# Altium integrated library TI Audio CODEC.IntLib: 199 symbols (part 6 of 17)
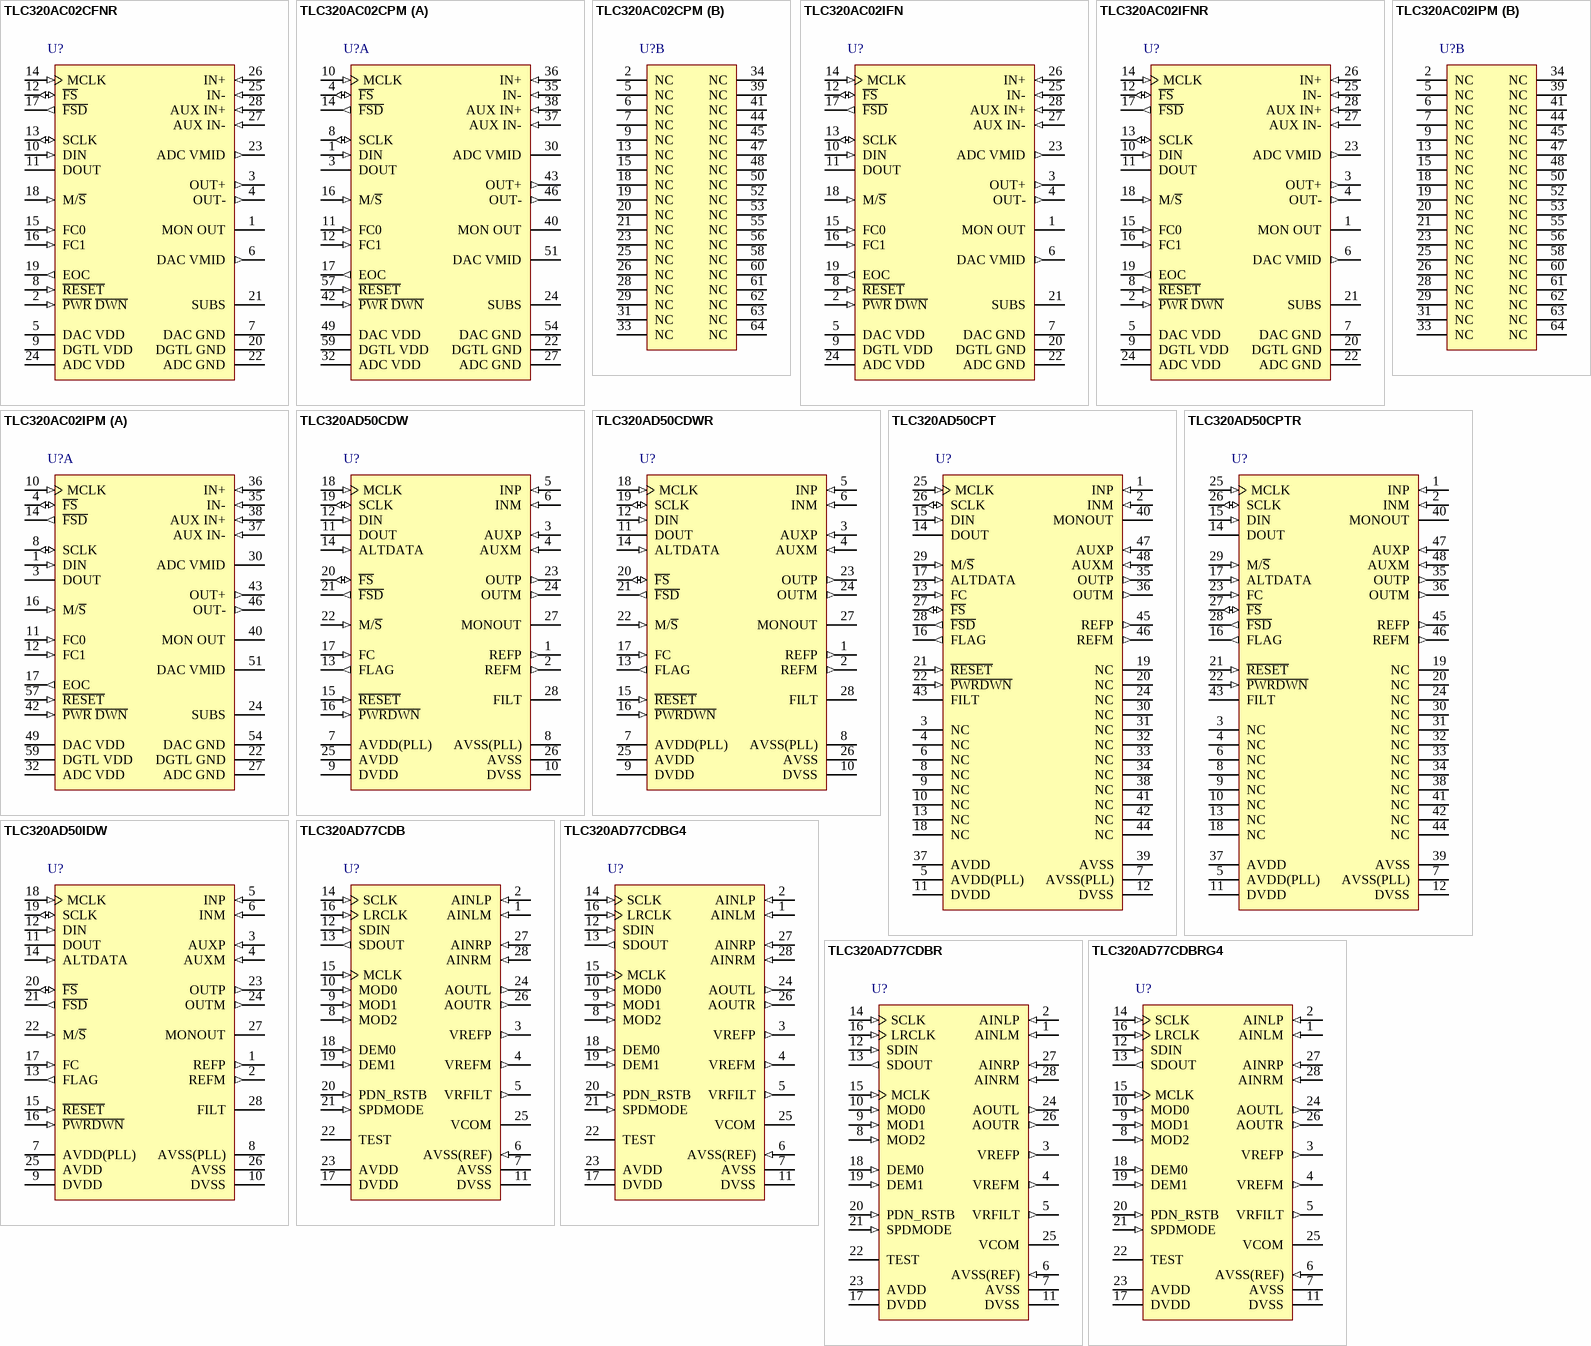
[diagram p18: symbols TLC320AC02CFNR to TLC320AD77CDBRG4]

## TLC320AD50CDWR
designator U?
Single Channel CODEC with Master-Slave Function (3 Slaves) and 89 dB SNR, 28-pin SOIC (DW), Green (RoHS & no Sb/Br); Manufacturer: Texas Instruments; PartNumber: TLC320AD50CDWR; Line Powered: TRUE; Sampling Rate (Max) (kHz): 22.05; DatasheetVersion: SLAS131E; PackageVersion: revG, Jan-2011; PackageReference: DW28; PackageDescription: 28-Pin Plastic Small Outline Integrated Circuit, 17.9 x 7.5 mm, Pitch 1.27 mm Pitch; Supplier 1: Digi-Key; Supplier Part Number 1: TLC320AD50CDWR-ND; Supplier 2: Newark; Supplier Part Number 2: 76C7271; Supplier 3: Mouser; Supplier Part Number 3: 595-TLC320AD50CDWR; Mounting Technology: Surface Mount; Code_JEDEC: MS-013-AE; ComponentLink1Description: Datasheet; ComponentLink1URL: http://www.ti.com/general/docs/lit/getliterature.tsp?genericPartNumber=TLC320AD50&fileType=pdf
footprint DW28_N (SOIC, 28-Leads, Body 17.9x7.5mm, Pitch 1.27mm, IPC Medium Density)
footprint DW28_L (SOIC, 28-Leads, Body 17.9x7.5mm, Pitch 1.27mm, IPC High Density)
footprint DW28_M (SOIC, 28-Leads, Body 17.9x7.5mm, Pitch 1.27mm, IPC Low Density)
pins: 1 REFP (out) "Voltage reference filter positive output. REFP is provided for low-pass filtering of the internal bandgap reference. The optimal ceramic capacitor value is 0.1 µF and should be connected between REFP and REFM. DC voltage at (See Datasheet)", 2 REFM (out) "Voltage reference filter output. REFM is provided for low-pass filtering of the internal bandgap reference. The optimal ceramic capacitor value is 0.1 µF and should be connected between REFM and REFP. DC voltage at REFM is 0 (See Datasheet)", 3 AUXP (in) "Noninverting input to auxiliary analog input. AUXP requires an external single-pole antialias filter with a low output impedance and should be tied to AVSS if not used.", 4 AUXM (in) "Inverting input to auxiliary analog input. AUXM requires an external single-pole antialias filter with a low output impedance and should be tied to AVSS if not used.", 5 INP (in) "Noninverting input to analog modulator. INP requires an external single-pole antialias filter with a low output impedance.", 6 INM (in) "Inverting input to analog modulator. INM requires an external single-pole antialias filter with a low output impedance.", 7 AVDD(PLL) (power) "Analog power supply for the internal PLL (5 V only)", 8 AVSS(PLL) (power) "Analog ground for the internal PLL", 9 DVDD (power) "Digital power supply (5 V or 3 V)", 10 DVSS (power) "Digital ground", 11 DOUT (hiz) "Data output. DOUT transmits the ADC output bits and register data, and is synchronized to SCLK. Data is sent out at the rising edge of SCLK when F\S\ is low. DOUT is at high impedance when F\S\ is not activated. When (See Datasheet)", 12 DIN (in) "Data input. DIN receives the DAC input data and register data from the external DSP (digital signal processor) and is synchronized to SCLK and F\S\. Data is latched at the falling edge of SCLK when F\S\ is low. DIN is at (See Datasheet)", 13 FLAG (out) "Output flag. During phone mode, FLAG contains the value set in control 2 register", 14 ALTDATA (in) "Alternate data. ALTDATA signals are routed to DOUT during secondary communication if the phone mode is enabled using control 2 register.", 15 ~{RESET} (in) "Reset. R\E\S\E\T\ initializes all of the internal registers to their default values. The serial port can be configured to the default state accordingly. See section 6 and paragraph 2.2.1 for more information.", 16 ~{PWRDWN} (in) "Power down. When P\W\R\D\W\N\ is pulled low, the device goes into a power-down mode, the serial interface is disabled. However, all the register values are sustained and the device resumes full power operation without (See Datasheet)", 17 FC (in) "Hardware secondary communication request. When FC is set to high, a secondary communication, followed by the primary communication, will occur to transfer data between this device and the external controller. FC is sampled (See Datasheet)", 18 MCLK (in) "Master clock. MCLK derives the internal clocks of the sigma-delta analog interface circuit.", 19 SCLK (io) "Shift clock. The SCLK signal clocks serial data in through DIN and out through DOUT during the frame-sync interval. When configured as an output (M/S high), SCLK is generated internally by multiplying the frame-sync signal (See Datasheet)", 20 ~{FS} (io) "Frame sync. F\S\ is an output when the device is configured as a master (M/S\ pin tied high). F\S\ is an input when the device is configured as a slave (M/S\ pin tied low). When configured as a slave, data will transfer when (See Datasheet)", 21 ~{FSD} (out) "Frame sync delayed output. The F\S\D\ (active-low) output synchronizes a slave device to the frame sync of the master device. F\S\D\ is applied to the slave F\S\ input and is the same duration as the master F\S\ signal but (See Datasheet)", 22 M/~{S} (in) "Master/slave select input. When M/S\ is high, the device is the master. When M/S\ is low, the device is a slave.", 23 OUTP (out) "Noninverting output of the DAC. The OUTP output can be loaded with 600 ohm. OUTP can also be used alone for single-ended operation.", 24 OUTM (out) "Inverting output of the DAC. The OUTM output can be loaded with 600 ohm. OUTM is functionally identical with and complementary to OUTP. OUTM can also be used alone for single-ended operation.", 25 AVDD (power) "Analog ADC power supply (5 V only)", 26 AVSS (power) "Analog ground", 27 MONOUT (hiz) "Monitor output. MONOUT allows for monitoring of the analog input and is a high-impedance output. The gain or mute is selected using control 1 register.", 28 FILT "Bandgap filter. FILT is provided for decoupling of the bandgap reference, and provides 3.2 V. The optimal capacitor value is 0.1 µF (ceramic). This voltage node should be loaded only with a high-impedance dc load."

## TLC320AD50CPT
designator U?
Single Channel CODEC with Master-Slave Function (3 Slaves), 89 dB DAC SNR, 48-pin LQFP (PT), Green (RoHS & no Sb/Br); Manufacturer: Texas Instruments; PartNumber: TLC320AD50CPT; Line Powered: TRUE; Sampling Rate (Max) (kHz): 22.05; PackageVersion: revC, Nov-1996; PackageReference: PT48; PackageDescription: 48-Pin Plastic Quad Flat Pack, 7 x 7 mm Body, 0.5 mm Pitch; Supplier 1: Digi-Key; Supplier Part Number 1: 296-10274-ND; Supplier 2: Newark; Supplier Part Number 2: 76C7272; Supplier 3: Mouser; Supplier Part Number 3: 595-TLC320AD50CPT; Mounting Technology: Surface Mount; Code_JEDEC: MS-026; ComponentLink1Description: Datasheet; ComponentLink1URL: http://www.ti.com/general/docs/lit/getliterature.tsp?genericPartNumber=&fileType=pdf
footprint PT48_N (Thin QFP, 48-Leads, Body 7x7mm, Pitch 0.5mm, IPC Medium Density)
footprint PT48_L (Thin QFP, 48-Leads, Body 7x7mm, Pitch 0.5mm, IPC High Density)
footprint PT48_M (Thin QFP, 48-Leads, Body 7x7mm, Pitch 0.5mm, IPC Low Density)
pins: 1 INP (in) "Noninverting input to analog modulator. INP requires an external single-pole antialias filter with a low output impedance.", 2 INM (in) "Inverting input to analog modulator. INM requires an external single-pole antialias filter with a low output impedance.", 3 NC "No internal connection", 4 NC "No internal connection", 5 AVDD(PLL) (power) "Analog power supply for the internal PLL (5 V only)", 6 NC "No internal connection", 7 AVSS(PLL) (power) "Analog ground for the internal PLL", 8 NC "No internal connection", 9 NC "No internal connection", 10 NC "No internal connection", 11 DVDD (power) "Digital power supply (5 V or 3 V)", 12 DVSS (power) "Digital ground", 13 NC "No internal connection", 14 DOUT (hiz) "Data output. DOUT transmits the ADC output bits and register data, and is synchronized to SCLK. Data is sent out at the rising edge of SCLK when F\S\ is low. DOUT is at high impedance when F\S\ is not activated. When (See Datasheet)", 15 DIN (in) "Data input. DIN receives the DAC input data and register data from the external DSP (digital signal processor) and is synchronized to SCLK and F\S\. Data is latched at the falling edge of SCLK when F\S\ is low. DIN is at (See Datasheet)", 16 FLAG (out) "Output flag. During phone mode, FLAG contains the value set in control 2 register", 17 ALTDATA (in) "Alternate data. ALTDATA signals are routed to DOUT during secondary communication if the phone mode is enabled using control 2 register", 18 NC "No internal connection", 19 NC "No internal connection", 20 NC "No internal connection", 21 ~{RESET} (in) "Reset. R\E\S\E\T\ initializes all of the internal registers to their default values. The serial port can be configured to the default state accordingly. See section 6 and paragraph 2.2.1 for more information.", 22 ~{PWRDWN} (in) "Power down. When P\W\R\D\W\N\ is pulled low, the device goes into a power-down mode, the serial interface is disabled. However, all the register values are sustained and the device resumes full power operation without (See Datasheet)", 23 FC (in) "Hardware secondary communication request. When F\C\ is set to high, a secondary communication, followed by the primary communication, will occur to transfer data between this device and the external controller. F\C\ is (See Datasheet)", 24 NC "No internal connection", 25 MCLK (in) "Master clock. MCLK derives the internal clocks of the sigma-delta analog interface circuit.", 26 SCLK (io) "Shift clock. The SCLK signal clocks serial data in through DIN and out through DOUT during the frame-sync interval. When configured as an output (M/S\ high), SCLK is generated internally by multiplying the frame-sync signal (See Datasheet)", 27 ~{FS} (io) "Frame sync. F\S\ is an output when the device is configured as a master (M/S\ pin tied high). F\S\ is an input when the device is configured as a slave (M/S pin tied low). When configured as a slave, data will transfer when (See Datasheet)", 28 ~{FSD} (out) "Frame sync delayed output. The F\S\D\ (active-low) output synchronizes a slave device to the frame sync of the master device. F\S\D\ is applied to the slave F\S\ input and is the same duration as the master F\S\ signal but (See Datasheet)", 29 M/~{S} (in) "Master/slave select input. When M/S\ is high, the device is the master. When M/S\ is low, the device is a slave.", 30 NC "No internal connection", 31 NC "No internal connection", 32 NC "No internal connection", 33 NC "No internal connection", 34 NC "No internal connection", 35 OUTP (out) "Noninverting output of the DAC. The OUTP output can be loaded with 600 ohm. OUTP can also be used alone for single-ended operation.", 36 OUTM (out) "Inverting output of the DAC. The OUTM output can be loaded with 600 ohm. OUTM is functionally identical with and complementary to OUTP. OUTM can also be used alone for single-ended operation.", 37 AVDD (power) "Analog ADC power supply (5 V only)", 38 NC "No internal connection", 39 AVSS (power) "Analog ground", 40 MONOUT (hiz) "Monitor output. MONOUT allows for monitoring of the analog input and is a high-impedance output. The gain or mute is selected using control 1 register.", 41 NC "No internal connection", 42 NC "No internal connection", 43 FILT "Bandgap filter. FILT is provided for decoupling of the bandgap reference, and provides 3.2 V. The optimal capacitor value is 0.1 µF (ceramic). This voltage node should be loaded only with a high-impedance dc load.", 44 NC "No internal connection", 45 REFP (out) "Voltage reference filter positive output. REFP is provided for low-pass filtering of the internal bandgap reference. The optimal ceramic capacitor value is 0.1 µF and should be connected between REFP and REFM. DC voltage at (See Datasheet)", 46 REFM (out) "Voltage reference filter output. REFM is provided for low-pass filtering of the internal bandgap reference. The optimal ceramic capacitor value is 0.1 µF and should be connected between REFM and REFP. DC voltage at REFM is 0 (See Datasheet)", 47 AUXP (in) "Noninverting input to auxiliary analog input. AUXP requires an external single-pole antialias filter with a low output impedance and should be tied to AVSS if not used.", 48 AUXM (in) "Inverting input to auxiliary analog input. AUXM requires an external single-pole antialias filter with a low output impedance and should be tied to AVSS if not used."

## TLC320AD50CPTR
designator U?
Single Channel CODEC with Master-Slave Function (3 Slaves), 89 dB DAC SNR, 48-pin LQFP (PT), Green (RoHS & no Sb/Br); Manufacturer: Texas Instruments; PartNumber: TLC320AD50CPTR; Line Powered: TRUE; Sampling Rate (Max) (kHz): 22.05; DatasheetVersion: SLAS131E; PackageVersion: revC, Nov-1996; PackageReference: PT48; PackageDescription: 48-Pin Plastic Quad Flat Pack, 7 x 7 mm Body, 0.5 mm Pitch; Supplier 1: Digi-Key; Supplier Part Number 1: TLC320AD50CPTR-ND; Supplier 2: Newark; Supplier Part Number 2: 76C7273; Supplier 3: Mouser; Supplier Part Number 3: 595-TLC320AD50CPTR; Mounting Technology: Surface Mount; Code_JEDEC: MS-026; ComponentLink1Description: Datasheet; ComponentLink1URL: http://www.ti.com/general/docs/lit/getliterature.tsp?genericPartNumber=TLC320AD50&fileType=pdf
footprint PT48_N (Thin QFP, 48-Leads, Body 7x7mm, Pitch 0.5mm, IPC Medium Density)
footprint PT48_L (Thin QFP, 48-Leads, Body 7x7mm, Pitch 0.5mm, IPC High Density)
footprint PT48_M (Thin QFP, 48-Leads, Body 7x7mm, Pitch 0.5mm, IPC Low Density)
pins: 1 INP (in) "Noninverting input to analog modulator. INP requires an external single-pole antialias filter with a low output impedance.", 2 INM (in) "Inverting input to analog modulator. INM requires an external single-pole antialias filter with a low output impedance.", 3 NC "No internal connection", 4 NC "No internal connection", 5 AVDD(PLL) (power) "Analog power supply for the internal PLL (5 V only)", 6 NC "No internal connection", 7 AVSS(PLL) (power) "Analog ground for the internal PLL", 8 NC "No internal connection", 9 NC "No internal connection", 10 NC "No internal connection", 11 DVDD (power) "Digital power supply (5 V or 3 V)", 12 DVSS (power) "Digital ground", 13 NC "No internal connection", 14 DOUT (hiz) "Data output. DOUT transmits the ADC output bits and register data, and is synchronized to SCLK. Data is sent out at the rising edge of SCLK when F\S\ is low. DOUT is at high impedance when F\S\ is not activated. When (See Datasheet)", 15 DIN (in) "Data input. DIN receives the DAC input data and register data from the external DSP (digital signal processor) and is synchronized to SCLK and F\S\. Data is latched at the falling edge of SCLK when F\S\ is low. DIN is at (See Datasheet)", 16 FLAG (out) "Output flag. During phone mode, FLAG contains the value set in control 2 register", 17 ALTDATA (in) "Alternate data. ALTDATA signals are routed to DOUT during secondary communication if the phone mode is enabled using control 2 register", 18 NC "No internal connection", 19 NC "No internal connection", 20 NC "No internal connection", 21 ~{RESET} (in) "Reset. R\E\S\E\T\ initializes all of the internal registers to their default values. The serial port can be configured to the default state accordingly. See section 6 and paragraph 2.2.1 for more information.", 22 ~{PWRDWN} (in) "Power down. When P\W\R\D\W\N\ is pulled low, the device goes into a power-down mode, the serial interface is disabled. However, all the register values are sustained and the device resumes full power operation without (See Datasheet)", 23 FC (in) "Hardware secondary communication request. When F\C\ is set to high, a secondary communication, followed by the primary communication, will occur to transfer data between this device and the external controller. F\C\ is (See Datasheet)", 24 NC "No internal connection", 25 MCLK (in) "Master clock. MCLK derives the internal clocks of the sigma-delta analog interface circuit.", 26 SCLK (io) "Shift clock. The SCLK signal clocks serial data in through DIN and out through DOUT during the frame-sync interval. When configured as an output (M/S\ high), SCLK is generated internally by multiplying the frame-sync signal (See Datasheet)", 27 ~{FS} (io) "Frame sync. F\S\ is an output when the device is configured as a master (M/S\ pin tied high). F\S\ is an input when the device is configured as a slave (M/S pin tied low). When configured as a slave, data will transfer when (See Datasheet)", 28 ~{FSD} (out) "Frame sync delayed output. The F\S\D\ (active-low) output synchronizes a slave device to the frame sync of the master device. F\S\D\ is applied to the slave F\S\ input and is the same duration as the master F\S\ signal but (See Datasheet)", 29 M/~{S} (in) "Master/slave select input. When M/S\ is high, the device is the master. When M/S\ is low, the device is a slave.", 30 NC "No internal connection", 31 NC "No internal connection", 32 NC "No internal connection", 33 NC "No internal connection", 34 NC "No internal connection", 35 OUTP (out) "Noninverting output of the DAC. The OUTP output can be loaded with 600 ohm. OUTP can also be used alone for single-ended operation.", 36 OUTM (out) "Inverting output of the DAC. The OUTM output can be loaded with 600 ohm. OUTM is functionally identical with and complementary to OUTP. OUTM can also be used alone for single-ended operation.", 37 AVDD (power) "Analog ADC power supply (5 V only)", 38 NC "No internal connection", 39 AVSS (power) "Analog ground", 40 MONOUT (hiz) "Monitor output. MONOUT allows for monitoring of the analog input and is a high-impedance output. The gain or mute is selected using control 1 register.", 41 NC "No internal connection", 42 NC "No internal connection", 43 FILT "Bandgap filter. FILT is provided for decoupling of the bandgap reference, and provides 3.2 V. The optimal capacitor value is 0.1 µF (ceramic). This voltage node should be loaded only with a high-impedance dc load.", 44 NC "No internal connection", 45 REFP (out) "Voltage reference filter positive output. REFP is provided for low-pass filtering of the internal bandgap reference. The optimal ceramic capacitor value is 0.1 µF and should be connected between REFP and REFM. DC voltage at (See Datasheet)", 46 REFM (out) "Voltage reference filter output. REFM is provided for low-pass filtering of the internal bandgap reference. The optimal ceramic capacitor value is 0.1 µF and should be connected between REFM and REFP. DC voltage at REFM is 0 (See Datasheet)", 47 AUXP (in) "Noninverting input to auxiliary analog input. AUXP requires an external single-pole antialias filter with a low output impedance and should be tied to AVSS if not used.", 48 AUXM (in) "Inverting input to auxiliary analog input. AUXM requires an external single-pole antialias filter with a low output impedance and should be tied to AVSS if not used."

## TLC320AD50IDW
designator U?
Single Channel CODEC with Master-Slave Function (3 Slaves) and 89 dB SNR, -40 to 85 degC, 28-pin SOIC (DW), Green (RoHS & no Sb/Br); Manufacturer: Texas Instruments; PartNumber: TLC320AD50IDW; Line Powered: TRUE; Sampling Rate (Max) (kHz): 22.05; DatasheetVersion: SLAS131E; PackageVersion: revG, Jan-2011; PackageReference: DW28; PackageDescription: 28-Pin Plastic Small Outline Integrated Circuit, 17.9 x 7.5 mm, Pitch 1.27 mm Pitch; Supplier 1: Farnell; Supplier Part Number 1: 1510096; Supplier 2: Newark; Supplier Part Number 2: 76C7274; Supplier 3: Mouser; Supplier Part Number 3: 595-TLC320AD50IDW; Mounting Technology: Surface Mount; Code_JEDEC: MS-013-AE; ComponentLink1Description: Datasheet; ComponentLink1URL: http://www.ti.com/general/docs/lit/getliterature.tsp?genericPartNumber=TLC320AD50&fileType=pdf
footprint DW28_N (SOIC, 28-Leads, Body 17.9x7.5mm, Pitch 1.27mm, IPC Medium Density)
footprint DW28_L (SOIC, 28-Leads, Body 17.9x7.5mm, Pitch 1.27mm, IPC High Density)
footprint DW28_M (SOIC, 28-Leads, Body 17.9x7.5mm, Pitch 1.27mm, IPC Low Density)
pins: 1 REFP (out) "Voltage reference filter positive output. REFP is provided for low-pass filtering of the internal bandgap reference. The optimal ceramic capacitor value is 0.1 µF and should be connected between REFP and REFM. DC voltage at (See Datasheet)", 2 REFM (out) "Voltage reference filter output. REFM is provided for low-pass filtering of the internal bandgap reference. The optimal ceramic capacitor value is 0.1 µF and should be connected between REFM and REFP. DC voltage at REFM is 0 (See Datasheet)", 3 AUXP (in) "Noninverting input to auxiliary analog input. AUXP requires an external single-pole antialias filter with a low output impedance and should be tied to AVSS if not used.", 4 AUXM (in) "Inverting input to auxiliary analog input. AUXM requires an external single-pole antialias filter with a low output impedance and should be tied to AVSS if not used.", 5 INP (in) "Noninverting input to analog modulator. INP requires an external single-pole antialias filter with a low output impedance.", 6 INM (in) "Inverting input to analog modulator. INM requires an external single-pole antialias filter with a low output impedance.", 7 AVDD(PLL) (power) "Analog power supply for the internal PLL (5 V only)", 8 AVSS(PLL) (power) "Analog ground for the internal PLL", 9 DVDD (power) "Digital power supply (5 V or 3 V)", 10 DVSS (power) "Digital ground", 11 DOUT (hiz) "Data output. DOUT transmits the ADC output bits and register data, and is synchronized to SCLK. Data is sent out at the rising edge of SCLK when F\S\ is low. DOUT is at high impedance when F\S\ is not activated. When (See Datasheet)", 12 DIN (in) "Data input. DIN receives the DAC input data and register data from the external DSP (digital signal processor) and is synchronized to SCLK and F\S\. Data is latched at the falling edge of SCLK when F\S\ is low. DIN is at (See Datasheet)", 13 FLAG (out) "Output flag. During phone mode, FLAG contains the value set in control 2 register", 14 ALTDATA (in) "Alternate data. ALTDATA signals are routed to DOUT during secondary communication if the phone mode is enabled using control 2 register.", 15 ~{RESET} (in) "Reset. R\E\S\E\T\ initializes all of the internal registers to their default values. The serial port can be configured to the default state accordingly. See section 6 and paragraph 2.2.1 for more information.", 16 ~{PWRDWN} (in) "Power down. When P\W\R\D\W\N\ is pulled low, the device goes into a power-down mode, the serial interface is disabled. However, all the register values are sustained and the device resumes full power operation without (See Datasheet)", 17 FC (in) "Hardware secondary communication request. When FC is set to high, a secondary communication, followed by the primary communication, will occur to transfer data between this device and the external controller. FC is sampled (See Datasheet)", 18 MCLK (in) "Master clock. MCLK derives the internal clocks of the sigma-delta analog interface circuit.", 19 SCLK (io) "Shift clock. The SCLK signal clocks serial data in through DIN and out through DOUT during the frame-sync interval. When configured as an output (M/S high), SCLK is generated internally by multiplying the frame-sync signal (See Datasheet)", 20 ~{FS} (io) "Frame sync. F\S\ is an output when the device is configured as a master (M/S\ pin tied high). F\S\ is an input when the device is configured as a slave (M/S\ pin tied low). When configured as a slave, data will transfer when (See Datasheet)", 21 ~{FSD} (out) "Frame sync delayed output. The F\S\D\ (active-low) output synchronizes a slave device to the frame sync of the master device. F\S\D\ is applied to the slave F\S\ input and is the same duration as the master F\S\ signal but (See Datasheet)", 22 M/~{S} (in) "Master/slave select input. When M/S\ is high, the device is the master. When M/S\ is low, the device is a slave.", 23 OUTP (out) "Noninverting output of the DAC. The OUTP output can be loaded with 600 ohm. OUTP can also be used alone for single-ended operation.", 24 OUTM (out) "Inverting output of the DAC. The OUTM output can be loaded with 600 ohm. OUTM is functionally identical with and complementary to OUTP. OUTM can also be used alone for single-ended operation.", 25 AVDD (power) "Analog ADC power supply (5 V only)", 26 AVSS (power) "Analog ground", 27 MONOUT (hiz) "Monitor output. MONOUT allows for monitoring of the analog input and is a high-impedance output. The gain or mute is selected using control 1 register.", 28 FILT "Bandgap filter. FILT is provided for decoupling of the bandgap reference, and provides 3.2 V. The optimal capacitor value is 0.1 µF (ceramic). This voltage node should be loaded only with a high-impedance dc load."

## TLC320AD77CDB
designator U?
Stereo Audio ADA with 2 ADCs and 2 DACs, 100 dB DAC SNR, 0 to 70 degC, 28-pin SSOP (DB), Green (RoHS & no Sb/Br); Manufacturer: Texas Instruments; PartNumber: TLC320AD77CDB; # ADCs (typ): 2; Additional Features: Differential Inputs; Control Interface: H/W; DAC SNR: 100; Digital Audio Interfaces: R, L, I2S, DSP; Line Powered: TRUE; Sampling Rate (Max) (kHz): 96; DatasheetVersion: SLAS194; PackageVersion: revE, Dec-2001; PackageReference: DB28; PackageDescription: 28-Pin Plastic Small Outline Package, 10.2 x 5.3 mm Body, 0.65 mm Pitch; Supplier 1: Digi-Key; Supplier Part Number 1: 296-2210-5-ND; Supplier 2: Farnell; Supplier Part Number 2: 1460579; Supplier 3: Newark; Supplier Part Number 3: 62M0431; Supplier 4: Newark; Supplier Part Number 4: 76C7281; Supplier 5: Mouser; Supplier Part Number 5: 595-TLC320AD77CDB; # DACs: 2; Mounting Technology: Surface Mount; Code_JEDEC: MO-150; ComponentLink1Description: Datasheet; ComponentLink1URL: http://www.ti.com/general/docs/lit/getliterature.tsp?genericPartNumber=TLC320AD77&fileType=pdf
footprint DB28_N (SOP, 28-Leads, Body 10.2x5.3mm, Pitch 0.65mm, IPC Medium Density)
footprint DB28_L (SOP, 28-Leads, Body 10.2x5.3mm, Pitch 0.65mm, IPC High Density)
footprint DB28_M (SOP, 28-Leads, Body 10.2x5.3mm, Pitch 0.65mm, IPC Low Density)
pins: 1 AINLM (in) "ADC analog differential negative input, left channel", 2 AINLP (in) "ADC analog differential positive input, left channel", 3 VREFP (out) "ADC/DAC positive reference voltage", 4 VREFM (out) "ADC/DAC negative reference voltage", 5 VRFILT (out) "Voltage reference low pass noise filter", 6 AVSS(REF) (in) "Analog ground voltage reference", 7 AVSS (power) "Analog voltage ground", 8 MOD2 (in) "Serial interface selection", 9 MOD1 (in) "Serial interface selection", 10 MOD0 (in) "Serial interface selection", 11 DVSS (power) "Digital ground", 12 SDIN (in) "Serial data DAC input", 13 SDOUT (out) "Serial data ADC output", 14 SCLK (in) "Shift or bit clock", 15 MCLK (in) "Master clock", 16 LRCLK (in) "Left/right clock", 17 DVDD (power) "Digital voltage supply", 18 DEM0 (in) "De-emphasis selection", 19 DEM1 (in) "De-emphasis selection", 20 PDN_RSTB (in) "Power down/reset", 21 SPDMODE (in) "Sampling frequency selection", 22 TEST (power) "Reserved, manufacturing test pin. Test should be connected to DVSS", 23 AVDD (power) "Analog voltage supply", 24 AOUTL (out) "DAC analog output, left channel", 25 VCOM "Common mode reference, provides a 1.5-V reference voltage (DAC only)", 26 AOUTR (out) "DAC analog output, right channel", 27 AINRP (in) "ADC analog differential positive input, right channel", 28 AINRM (in) "ADC analog differential negative input, right channel"

## TLC320AD77CDBG4
designator U?
Stereo Audio ADA with 2 ADCs and 2 DACs, 100 dB DAC SNR, 0 to 70 degC, 28-pin SSOP (DB), Green (RoHS & no Sb/Br); Manufacturer: Texas Instruments; PartNumber: TLC320AD77CDBG4; # ADCs (typ): 2; Additional Features: Differential Inputs; Control Interface: H/W; DAC SNR: 100; Digital Audio Interfaces: R, L, I2S, DSP; Line Powered: TRUE; Sampling Rate (Max) (kHz): 96; DatasheetVersion: SLAS194; PackageVersion: revE, Dec-2001; PackageReference: DB28; PackageDescription: 28-Pin Plastic Small Outline Package, 10.2 x 5.3 mm Body, 0.65 mm Pitch; Supplier 1: Digi-Key; Supplier Part Number 1: TLC320AD77CDBG4-ND; Supplier 2: Newark; Supplier Part Number 2: 66K4361; Supplier 3: Mouser; Supplier Part Number 3: 595-TLC320AD77CDBG4; # DACs: 2; Mounting Technology: Surface Mount; Code_JEDEC: MO-150; ComponentLink1Description: Datasheet; ComponentLink1URL: http://www.ti.com/general/docs/lit/getliterature.tsp?genericPartNumber=TLC320AD77&fileType=pdf
footprint DB28_N (SOP, 28-Leads, Body 10.2x5.3mm, Pitch 0.65mm, IPC Medium Density)
footprint DB28_L (SOP, 28-Leads, Body 10.2x5.3mm, Pitch 0.65mm, IPC High Density)
footprint DB28_M (SOP, 28-Leads, Body 10.2x5.3mm, Pitch 0.65mm, IPC Low Density)
pins: 1 AINLM (in) "ADC analog differential negative input, left channel", 2 AINLP (in) "ADC analog differential positive input, left channel", 3 VREFP (out) "ADC/DAC positive reference voltage", 4 VREFM (out) "ADC/DAC negative reference voltage", 5 VRFILT (out) "Voltage reference low pass noise filter", 6 AVSS(REF) (in) "Analog ground voltage reference", 7 AVSS (power) "Analog voltage ground", 8 MOD2 (in) "Serial interface selection", 9 MOD1 (in) "Serial interface selection", 10 MOD0 (in) "Serial interface selection", 11 DVSS (power) "Digital ground", 12 SDIN (in) "Serial data DAC input", 13 SDOUT (out) "Serial data ADC output", 14 SCLK (in) "Shift or bit clock", 15 MCLK (in) "Master clock", 16 LRCLK (in) "Left/right clock", 17 DVDD (power) "Digital voltage supply", 18 DEM0 (in) "De-emphasis selection", 19 DEM1 (in) "De-emphasis selection", 20 PDN_RSTB (in) "Power down/reset", 21 SPDMODE (in) "Sampling frequency selection", 22 TEST (power) "Reserved, manufacturing test pin. Test should be connected to DVSS", 23 AVDD (power) "Analog voltage supply", 24 AOUTL (out) "DAC analog output, left channel", 25 VCOM "Common mode reference, provides a 1.5-V reference voltage (DAC only)", 26 AOUTR (out) "DAC analog output, right channel", 27 AINRP (in) "ADC analog differential positive input, right channel", 28 AINRM (in) "ADC analog differential negative input, right channel"

## TLC320AD77CDBR
designator U?
Stereo Audio ADA with 2 ADCs and 2 DACs, 100 dB DAC SNR, 0 to 70 degC, 28-pin SSOP (DB), Green (RoHS & no Sb/Br); Manufacturer: Texas Instruments; PartNumber: TLC320AD77CDBR; # ADCs (typ): 2; Additional Features: Differential Inputs; Control Interface: H/W; DAC SNR: 100; Digital Audio Interfaces: R, L, I2S, DSP; Line Powered: TRUE; Sampling Rate (Max) (kHz): 96; DatasheetVersion: SLAS194; PackageVersion: revE, Dec-2001; PackageReference: DB28; PackageDescription: 28-Pin Plastic Small Outline Package, 10.2 x 5.3 mm Body, 0.65 mm Pitch; Supplier 1: Digi-Key; Supplier Part Number 1: TLC320AD77CDBR-ND; Supplier 2: Newark; Supplier Part Number 2: 76C7282; Supplier 3: Mouser; Supplier Part Number 3: 595-TLC320AD77CDBR; # DACs: 2; Mounting Technology: Surface Mount; Code_JEDEC: MO-150; ComponentLink1Description: Datasheet; ComponentLink1URL: http://www.ti.com/general/docs/lit/getliterature.tsp?genericPartNumber=TLC320AD77&fileType=pdf
footprint DB28_N (SOP, 28-Leads, Body 10.2x5.3mm, Pitch 0.65mm, IPC Medium Density)
footprint DB28_L (SOP, 28-Leads, Body 10.2x5.3mm, Pitch 0.65mm, IPC High Density)
footprint DB28_M (SOP, 28-Leads, Body 10.2x5.3mm, Pitch 0.65mm, IPC Low Density)
pins: 1 AINLM (in) "ADC analog differential negative input, left channel", 2 AINLP (in) "ADC analog differential positive input, left channel", 3 VREFP (out) "ADC/DAC positive reference voltage", 4 VREFM (out) "ADC/DAC negative reference voltage", 5 VRFILT (out) "Voltage reference low pass noise filter", 6 AVSS(REF) (in) "Analog ground voltage reference", 7 AVSS (power) "Analog voltage ground", 8 MOD2 (in) "Serial interface selection", 9 MOD1 (in) "Serial interface selection", 10 MOD0 (in) "Serial interface selection", 11 DVSS (power) "Digital ground", 12 SDIN (in) "Serial data DAC input", 13 SDOUT (out) "Serial data ADC output", 14 SCLK (in) "Shift or bit clock", 15 MCLK (in) "Master clock", 16 LRCLK (in) "Left/right clock", 17 DVDD (power) "Digital voltage supply", 18 DEM0 (in) "De-emphasis selection", 19 DEM1 (in) "De-emphasis selection", 20 PDN_RSTB (in) "Power down/reset", 21 SPDMODE (in) "Sampling frequency selection", 22 TEST (power) "Reserved, manufacturing test pin. Test should be connected to DVSS", 23 AVDD (power) "Analog voltage supply", 24 AOUTL (out) "DAC analog output, left channel", 25 VCOM "Common mode reference, provides a 1.5-V reference voltage (DAC only)", 26 AOUTR (out) "DAC analog output, right channel", 27 AINRP (in) "ADC analog differential positive input, right channel", 28 AINRM (in) "ADC analog differential negative input, right channel"

## TLC320AD77CDBRG4
designator U?
Stereo Audio ADA with 2 ADCs and 2 DACs, 100 dB DAC SNR, 0 to 70 degC, 28-pin SSOP (DB), Green (RoHS & no Sb/Br); Manufacturer: Texas Instruments; PartNumber: TLC320AD77CDBRG4; # ADCs (typ): 2; Additional Features: Differential Inputs; Control Interface: H/W; DAC SNR: 100; Digital Audio Interfaces: R, L, I2S, DSP; Line Powered: TRUE; Sampling Rate (Max) (kHz): 96; DatasheetVersion: SLAS194; PackageVersion: revE, Dec-2001; PackageReference: DB28; PackageDescription: 28-Pin Plastic Small Outline Package, 10.2 x 5.3 mm Body, 0.65 mm Pitch; Supplier 1: Digi-Key; Supplier Part Number 1: TLC320AD77CDBRG4-ND; Supplier 2: Newark; Supplier Part Number 2: 67K8497; Supplier 3: Mouser; Supplier Part Number 3: 595-TLC320AD77CDBRG4; # DACs: 2; Mounting Technology: Surface Mount; Code_JEDEC: MO-150; ComponentLink1Description: Datasheet; ComponentLink1URL: http://www.ti.com/general/docs/lit/getliterature.tsp?genericPartNumber=TLC320AD77&fileType=pdf
footprint DB28_N (SOP, 28-Leads, Body 10.2x5.3mm, Pitch 0.65mm, IPC Medium Density)
footprint DB28_L (SOP, 28-Leads, Body 10.2x5.3mm, Pitch 0.65mm, IPC High Density)
footprint DB28_M (SOP, 28-Leads, Body 10.2x5.3mm, Pitch 0.65mm, IPC Low Density)
pins: 1 AINLM (in) "ADC analog differential negative input, left channel", 2 AINLP (in) "ADC analog differential positive input, left channel", 3 VREFP (out) "ADC/DAC positive reference voltage", 4 VREFM (out) "ADC/DAC negative reference voltage", 5 VRFILT (out) "Voltage reference low pass noise filter", 6 AVSS(REF) (in) "Analog ground voltage reference", 7 AVSS (power) "Analog voltage ground", 8 MOD2 (in) "Serial interface selection", 9 MOD1 (in) "Serial interface selection", 10 MOD0 (in) "Serial interface selection", 11 DVSS (power) "Digital ground", 12 SDIN (in) "Serial data DAC input", 13 SDOUT (out) "Serial data ADC output", 14 SCLK (in) "Shift or bit clock", 15 MCLK (in) "Master clock", 16 LRCLK (in) "Left/right clock", 17 DVDD (power) "Digital voltage supply", 18 DEM0 (in) "De-emphasis selection", 19 DEM1 (in) "De-emphasis selection", 20 PDN_RSTB (in) "Power down/reset", 21 SPDMODE (in) "Sampling frequency selection", 22 TEST (power) "Reserved, manufacturing test pin. Test should be connected to DVSS", 23 AVDD (power) "Analog voltage supply", 24 AOUTL (out) "DAC analog output, left channel", 25 VCOM "Common mode reference, provides a 1.5-V reference voltage (DAC only)", 26 AOUTR (out) "DAC analog output, right channel", 27 AINRP (in) "ADC analog differential positive input, right channel", 28 AINRM (in) "ADC analog differential negative input, right channel"

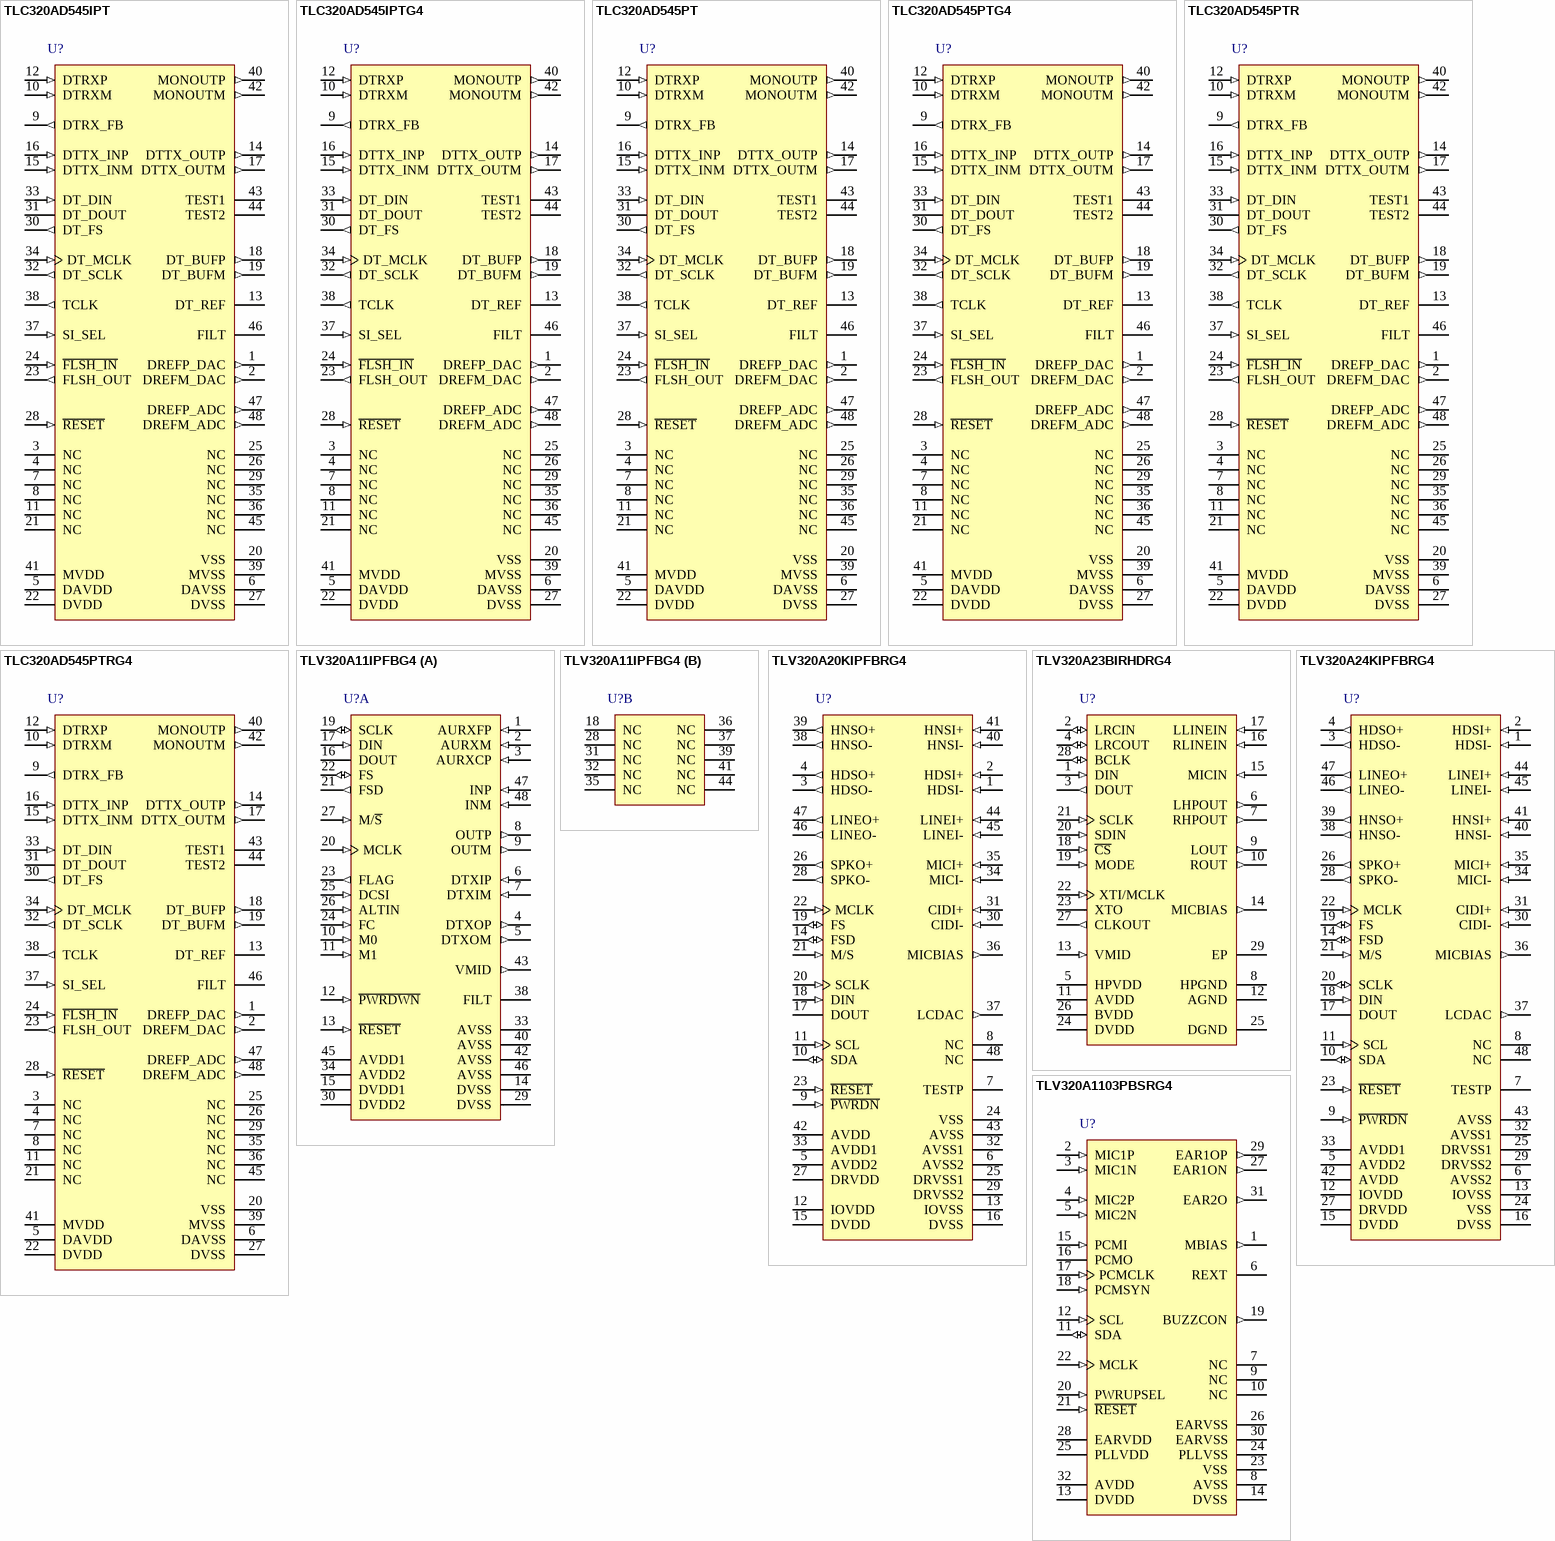
[diagram p5: symbols TLC320AD545IPT to TLV320A1103PBSRG4]

## TLC320AD545IPT
designator U?
Single Channel CODEC with Hybrid Op Amps & Speaker Driver with 1 ADC and 1 DAC, 87 dB DAC SNR, -40 to 85 degC, 48-pin LQFP (PT), Green (RoHS & no Sb/Br); Manufacturer: Texas Instruments; PartNumber: TLC320AD545IPT; # ADCs (typ): 1; Control Interface: H/W; DAC SNR: 87; Line Powered: TRUE; Sampling Rate (Max) (kHz): 11.025; Speaker Amp Type: Class-AB; DatasheetVersion: SLAS206C; PackageVersion: revC, Nov-1996; PackageReference: PT48; PackageDescription: 48-Pin Plastic Quad Flat Pack, 7 x 7 mm Body, 0.5 mm Pitch; Supplier 1: Digi-Key; Supplier Part Number 1: 296-10276-ND; Supplier 2: Newark; Supplier Part Number 2: 76C7278; Supplier 3: Mouser; Supplier Part Number 3: 595-TLC320AD545IPT; # DACs: 1; Mounting Technology: Surface Mount; Code_JEDEC: MS-026; ComponentLink1Description: Datasheet; ComponentLink1URL: http://www.ti.com/general/docs/lit/getliterature.tsp?genericPartNumber=TLC320AD545&fileType=pdf
footprint PT48_N (Thin QFP, 48-Leads, Body 7x7mm, Pitch 0.5mm, IPC Medium Density)
footprint PT48_L (Thin QFP, 48-Leads, Body 7x7mm, Pitch 0.5mm, IPC High Density)
footprint PT48_M (Thin QFP, 48-Leads, Body 7x7mm, Pitch 0.5mm, IPC Low Density)
pins: 1 DREFP_DAC (out) "DAC voltage reference filter output. DREFP_DAC provides for lowpass filtering the internal bandgap reference. The optimal ceramic capacitor value is 0.1 µF connected between DREFM_DAC and DREFP_DAC. The dc voltage at this (See Datasheet)", 2 DREFM_DAC (out) "DAC voltage reference filter output. DREFM_DAC provides for lowpass filtering the internal bandgap reference. The optimal ceramic capacitor value is 0.1  µF connected between DREFM_ADC and DREFP_ADC. The nominal dc voltage (See Datasheet)", 3 NC "No connection", 4 NC "No connection", 5 DAVDD (power) "Analog power supply (5 V/3.3 V)", 6 DAVSS (power) "Analog ground", 7 NC "No connection", 8 NC "No connection", 9 DTRX_FB (out) "Receive path amplifier feedback node. DTRX_FB terminal is connected to the noninverting output of the receive path amplifier and allows a parallel resistor/capacitor to be placed in the amplifier feedback path for setting (See Datasheet)", 10 DTRXM (in) "Receive path amplifier analog inverting input", 11 NC "No connection", 12 DTRXP (in) "Receive path amplifier analog noninverting input", 13 DT_REF "Reference voltage for the transformer at 2.5 V for a 5-V DAVDD supply and 1.5 V for a 3.3-V DAVDD supply. The maximum source or sink current at this terminal is 2.5 mA. DT_REF must be left unconnected in differential hybrid.", 14 DTTX_OUTP (out) "Transmit amplifier analog noninverting output", 15 DTTX_INM (in) "Transmit amplifier analog inverting input. This node is normally fed by the DT_BUFM output through an input resistor", 16 DTTX_INP (in) "Transmit amplifier analog noninverting input. This node is normally fed by the DT_BUFP output through an input resistor. DTTX_INP must be shorted to DTTX_OUTM in single-ended hybrid.", 17 DTTX_OUTM (out) "Transmit amplifier analog inverting output. DTTX_OUTM must be shorted to DTTX_INP in single-ended hybrid.", 18 DT_BUFP (out) "Buffer amp analog noninverting output. DT_BUFP can be programmed for 0 dB, -6 dB, -12 dB and -18 dB gain or muted using the control registers. This output is normally fed to the DTTX_INP terminal through an input resistor. (See Datasheet)", 19 DT_BUFM (out) "Buffer amp analog inverting output. DT_BUFM can be programmed for 0 dB, -6 dB, -12 dB, and -18 dB gain or muted using the control registers. This output is normally fed to the DTTX_INM terminal through an input resistor.", 20 VSS (power) "Internal substrate connection. VSS should be tied to DAVSS .", 21 NC "No connection", 22 DVDD (power) "Digital and RESET circuit power supply (5 V/3.3 V)", 23 FLSH_OUT (out) "Power output to write/erase flash EEPROM device (such as Intel  28F400B or AMD Am29F400). Supplies 45 mA maximum from 5 V when F\L\S\H\_\I\N\ is brought low.", 24 ~{FLSH_IN} (in) "External ASIC logic input. When brought low, F\L\S\H\_\I\N\ enables the FLSH_OUT output.", 25 NC "No connection", 26 NC "No connection", 27 DVSS (power) "Digital and RESET circuit ground", 28 ~{RESET} (in) "Codec device reset. R\E\S\E\T\  initializes all device internal registers to default values. This signal is active low.", 29 NC "No connection", 30 DT_FS (out) "Serial port frame sync signal. DT_FS signals the beginning of transmit for ADC data and receiving of DAC data. This signal can be active high (FS high mode) or active low (FS low mode) depending on the voltage applied to (See Datasheet)", 31 DT_DOUT (hiz) "Digital data output. ADC output bits transmit data during the frame sync period which is synchronized to DT_SCLK. DT_DOUT is at high impedance when DT_FS is not activated.", 32 DT_SCLK (out) "Shift clock signal. DT_SCLK clocks serial data into DT_DIN and out of DT_DOUT during the frame-sync interval. DT_SCLK rate is DT_MCLK/2.", 33 DT_DIN (in) "Digital data input. DT_DIN handles DAC input data as well as control register programming information during frame sync interval and is synchronized to DT_SCLK.", 34 DT_MCLK (in) "Master clock input. All internal clocks are derived from this clock.", 35 NC "No connection", 36 NC "No connection", 37 SI_SEL (in) "Serial interface mode select. When SI_SEL is tied to DVDD,  the serial port is in FS high mode. When SI_SEL is tied to DVSS, the serial port is in FS low mode. (see Section 4, Serial Communications).", 38 TCLK (out) "Test output port. TCLK is for factory test only and should be either connected to ground or left unconnected.", 39 MVSS (power) "Monitor amplifier ground", 40 MONOUTP (out) "Analog output from 8-ohm monitor speaker amplifier which can be set for 0-dB gain or muted through the control registers.", 41 MVDD (power) "Monitor amplifier supply (5 V/3.3 V)", 42 MONOUTM (out) "Analog output from 8-ohm monitor speaker amplifier which can be set for 0-dB gain or muted through the control registers.", 43 TEST1 "Test input port. TEST1 is for factory test only and should be either connected to ground or left unconnected.", 44 TEST2 "Test input port. TEST2 is for factory test only and should be either connected to ground or left unconnected.", 45 NC "No connection", 46 FILT "Bandgap filter node. FILT provides decoupling of the bandgap reference voltage. This reference is 3.375 V with a 5-V supply and 2.25 V with a 3.3-V supply. The optimal capacitor value is 0.1 µF (ceramic). This node should (See Datasheet)", 47 DREFP_ADC (out) "ADC voltage reference filter output. DREFP_ADC provides lowpass filtering for the internal bandgap reference. The optimal ceramic capacitor value is 0.1 µF connected between DREFM_ADC and DREFP_ADC. The dc voltage at this (See Datasheet)", 48 DREFM_ADC (out) "ADC voltage reference filter output. DREFM_ADC provides lowpass filtering for the internal bandgap reference. The optimal ceramic capacitor value is 0.1  µF connected between DREFM_ADC and DREFP_ADC. The nominal dc voltage (See Datasheet)"

## TLC320AD545IPTG4
designator U?
Single Channel CODEC with Hybrid Op Amps & Speaker Driver, 1 ADC and 1 DAC, 87 dB DAC SNR, -40 to 85 degC, 48-pin LQFP (PT), Green (RoHS & no Sb/Br); Manufacturer: Texas Instruments; PartNumber: TLC320AD545IPTG4; # ADCs (typ): 1; Control Interface: H/W; DAC SNR: 87; Line Powered: TRUE; Sampling Rate (Max) (kHz): 11.025; Speaker Amp Type: Class-AB; DatasheetVersion: SLAS206C; PackageVersion: revC, Nov-1996; PackageReference: PT48; PackageDescription: 48-Pin Plastic Quad Flat Pack, 7 x 7 mm Body, 0.5 mm Pitch; Supplier 1: Digi-Key; Supplier Part Number 1: TLC320AD545IPTG4-ND; Supplier 2: Newark; Supplier Part Number 2: 58K6731; Supplier 3: Mouser; Supplier Part Number 3: 595-TLC320AD545IPTG4; # DACs: 1; Mounting Technology: Surface Mount; Code_JEDEC: MS-026; ComponentLink1Description: Datasheet; ComponentLink1URL: http://www.ti.com/general/docs/lit/getliterature.tsp?genericPartNumber=TLC320AD545&fileType=pdf
footprint PT48_N (Thin QFP, 48-Leads, Body 7x7mm, Pitch 0.5mm, IPC Medium Density)
footprint PT48_L (Thin QFP, 48-Leads, Body 7x7mm, Pitch 0.5mm, IPC High Density)
footprint PT48_M (Thin QFP, 48-Leads, Body 7x7mm, Pitch 0.5mm, IPC Low Density)
pins: 1 DREFP_DAC (out) "DAC voltage reference filter output. DREFP_DAC provides for lowpass filtering the internal bandgap reference. The optimal ceramic capacitor value is 0.1 µF connected between DREFM_DAC and DREFP_DAC. The dc voltage at this (See Datasheet)", 2 DREFM_DAC (out) "DAC voltage reference filter output. DREFM_DAC provides for lowpass filtering the internal bandgap reference. The optimal ceramic capacitor value is 0.1  µF connected between DREFM_ADC and DREFP_ADC. The nominal dc voltage (See Datasheet)", 3 NC "No connection", 4 NC "No connection", 5 DAVDD (power) "Analog power supply (5 V/3.3 V)", 6 DAVSS (power) "Analog ground", 7 NC "No connection", 8 NC "No connection", 9 DTRX_FB (out) "Receive path amplifier feedback node. DTRX_FB terminal is connected to the noninverting output of the receive path amplifier and allows a parallel resistor/capacitor to be placed in the amplifier feedback path for setting (See Datasheet)", 10 DTRXM (in) "Receive path amplifier analog inverting input", 11 NC "No connection", 12 DTRXP (in) "Receive path amplifier analog noninverting input", 13 DT_REF "Reference voltage for the transformer at 2.5 V for a 5-V DAVDD supply and 1.5 V for a 3.3-V DAVDD supply. The maximum source or sink current at this terminal is 2.5 mA. DT_REF must be left unconnected in differential hybrid.", 14 DTTX_OUTP (out) "Transmit amplifier analog noninverting output", 15 DTTX_INM (in) "Transmit amplifier analog inverting input. This node is normally fed by the DT_BUFM output through an input resistor", 16 DTTX_INP (in) "Transmit amplifier analog noninverting input. This node is normally fed by the DT_BUFP output through an input resistor. DTTX_INP must be shorted to DTTX_OUTM in single-ended hybrid.", 17 DTTX_OUTM (out) "Transmit amplifier analog inverting output. DTTX_OUTM must be shorted to DTTX_INP in single-ended hybrid.", 18 DT_BUFP (out) "Buffer amp analog noninverting output. DT_BUFP can be programmed for 0 dB, -6 dB, -12 dB and -18 dB gain or muted using the control registers. This output is normally fed to the DTTX_INP terminal through an input resistor. (See Datasheet)", 19 DT_BUFM (out) "Buffer amp analog inverting output. DT_BUFM can be programmed for 0 dB, -6 dB, -12 dB, and -18 dB gain or muted using the control registers. This output is normally fed to the DTTX_INM terminal through an input resistor.", 20 VSS (power) "Internal substrate connection. VSS should be tied to DAVSS .", 21 NC "No connection", 22 DVDD (power) "Digital and RESET circuit power supply (5 V/3.3 V)", 23 FLSH_OUT (out) "Power output to write/erase flash EEPROM device (such as Intel  28F400B or AMD Am29F400). Supplies 45 mA maximum from 5 V when F\L\S\H\_\I\N\ is brought low.", 24 ~{FLSH_IN} (in) "External ASIC logic input. When brought low, F\L\S\H\_\I\N\ enables the FLSH_OUT output.", 25 NC "No connection", 26 NC "No connection", 27 DVSS (power) "Digital and RESET circuit ground", 28 ~{RESET} (in) "Codec device reset. R\E\S\E\T\  initializes all device internal registers to default values. This signal is active low.", 29 NC "No connection", 30 DT_FS (out) "Serial port frame sync signal. DT_FS signals the beginning of transmit for ADC data and receiving of DAC data. This signal can be active high (FS high mode) or active low (FS low mode) depending on the voltage applied to (See Datasheet)", 31 DT_DOUT (hiz) "Digital data output. ADC output bits transmit data during the frame sync period which is synchronized to DT_SCLK. DT_DOUT is at high impedance when DT_FS is not activated.", 32 DT_SCLK (out) "Shift clock signal. DT_SCLK clocks serial data into DT_DIN and out of DT_DOUT during the frame-sync interval. DT_SCLK rate is DT_MCLK/2.", 33 DT_DIN (in) "Digital data input. DT_DIN handles DAC input data as well as control register programming information during frame sync interval and is synchronized to DT_SCLK.", 34 DT_MCLK (in) "Master clock input. All internal clocks are derived from this clock.", 35 NC "No connection", 36 NC "No connection", 37 SI_SEL (in) "Serial interface mode select. When SI_SEL is tied to DVDD,  the serial port is in FS high mode. When SI_SEL is tied to DVSS, the serial port is in FS low mode. (see Section 4, Serial Communications).", 38 TCLK (out) "Test output port. TCLK is for factory test only and should be either connected to ground or left unconnected.", 39 MVSS (power) "Monitor amplifier ground", 40 MONOUTP (out) "Analog output from 8-ohm monitor speaker amplifier which can be set for 0-dB gain or muted through the control registers.", 41 MVDD (power) "Monitor amplifier supply (5 V/3.3 V)", 42 MONOUTM (out) "Analog output from 8-ohm monitor speaker amplifier which can be set for 0-dB gain or muted through the control registers.", 43 TEST1 "Test input port. TEST1 is for factory test only and should be either connected to ground or left unconnected.", 44 TEST2 "Test input port. TEST2 is for factory test only and should be either connected to ground or left unconnected.", 45 NC "No connection", 46 FILT "Bandgap filter node. FILT provides decoupling of the bandgap reference voltage. This reference is 3.375 V with a 5-V supply and 2.25 V with a 3.3-V supply. The optimal capacitor value is 0.1 µF (ceramic). This node should (See Datasheet)", 47 DREFP_ADC (out) "ADC voltage reference filter output. DREFP_ADC provides lowpass filtering for the internal bandgap reference. The optimal ceramic capacitor value is 0.1 µF connected between DREFM_ADC and DREFP_ADC. The dc voltage at this (See Datasheet)", 48 DREFM_ADC (out) "ADC voltage reference filter output. DREFM_ADC provides lowpass filtering for the internal bandgap reference. The optimal ceramic capacitor value is 0.1  µF connected between DREFM_ADC and DREFP_ADC. The nominal dc voltage (See Datasheet)"